# EAGLE library part CB-OLP425 (library ublox)
BLUE TOOTH MODULE
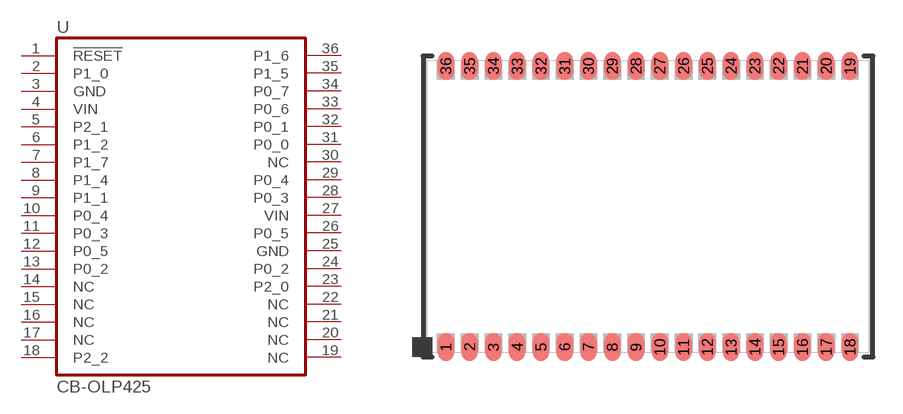
[diagram p1: symbol with the pads of CB-OLP425; footprint CB-OLP425]

Designator prefix U

## CB-OLP425  [CB-OLP425]
1  !RESET!  oc
2  P1_0
3  GND  pwr
4  VIN  pwr
5  P2_1
6  P1_2
7  P1_7
8  P1_4
9  P1_1
10  P0_4
11  P0_3
12  P0_5
13  P0_2
14  NC  nc
15  NC  nc
16  NC  nc
17  NC  nc
18  P2_2
19  NC  nc
20  NC  nc
21  NC  nc
22  NC  nc
23  P2_0
24  P0_2
25  GND  pwr
26  P0_5
27  VIN  pwr
28  P0_3
29  P0_4
30  NC  nc
31  P0_0
32  P0_1
33  P0_6
34  P0_7
35  P1_5
36  P1_6

## Footprint CB-OLP425 (pad centres in mm)
BLUETOOTH MODULE
smd 0.8 x 1.4: 1 -10.2,-7.1; 2 -9,-7.1; 3 -7.8,-7.1; 4 -6.6,-7.1; 5 -5.4,-7.1; 6 -4.2,-7.1; 7 -3,-7.1; 8 -1.8,-7.1; 9 -0.6,-7.1; 10 0.6,-7.1; 11 1.8,-7.1; 12 3,-7.1; 13 4.2,-7.1; 14 5.4,-7.1; 15 6.6,-7.1; 16 7.8,-7.1; 17 9,-7.1; 18 10.2,-7.1; 19 10.2,7.1; 20 9,7.1; 21 7.8,7.1; 22 6.6,7.1; 23 5.4,7.1; 24 4.2,7.1; 25 3,7.1; 26 1.8,7.1; 27 0.6,7.1; 28 -0.6,7.1; 29 -1.8,7.1; 30 -3,7.1; 31 -4.2,7.1; 32 -5.4,7.1; 33 -6.6,7.1; 34 -7.8,7.1; 35 -9,7.1; 36 -10.2,7.1